# Altium footprint library TPS51396ARJER.PcbLib: 1 footprints
Each footprint in its own frame and in the unit in brackets; x right, y up, seen from the top. Pads: shape width x height; smd on the part's side, far side on the other; paste and mask are expansions set on the pad; w line width, h text height; cw(c..) or ccw(c..) is an arc to the next point about the centre after c.
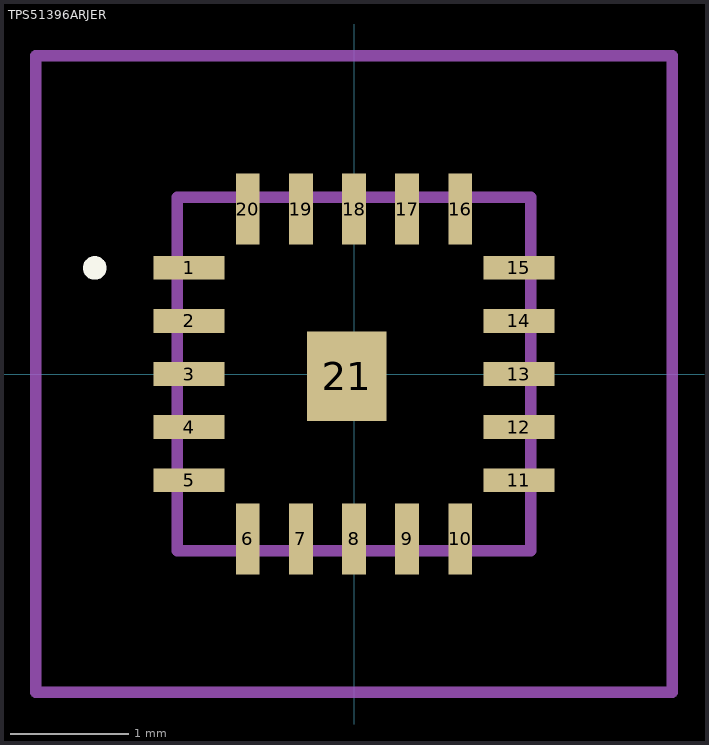
[diagram p0: the footprint, top view; thin cyan lines are the x and y axes]

## TPS51396ARJER [mm]
pads (21):
  rect 0.6x0.2 smd: 1(-1.4,0.9) 2(-1.4,0.45) 3(-1.4,0) 4(-1.4,-0.45) 5(-1.4,-0.9) 11(1.4,-0.9) 12(1.4,-0.45) 13(1.4,0) 14(1.4,0.45) 15(1.4,0.9)
  rect 0.2x0.6 smd: 6(-0.9,-1.4) 7(-0.45,-1.4) 8(0,-1.4) 9(0.45,-1.4) 10(0.9,-1.4) 16(0.9,1.4) 17(0.45,1.4) 18(0,1.4) 19(-0.45,1.4) 20(-0.9,1.4)
  rect 0.675x0.76 smd: 21(-0.06,-0.018)
Top Overlay:
  lines w0.1: -2.25,0.9 cw(c-2.2,0.9) -2.15,0.9 ; -2.25,0.9 -2.25,0.9 ; -2.25,0.9 ccw(c-2.2,0.9) -2.15,0.9 ; -2.15,0.9 -2.15,0.9
Mechanical 15:
  lines w0.1: -1.5,-1.5 1.5,-1.5 1.5,1.5 -1.5,1.5 -1.5,-1.5
Mechanical 20:
  lines w0.1: -2.7,-2.7 2.7,-2.7 2.7,2.7 -2.7,2.7 -2.7,-2.7